# Altium schematic symbol library CAP,Alum,1000uF,25VDC,SMD.Schlib: 1 symbol
Pins are listed as number, name and electrical type; pins without a type are passive.

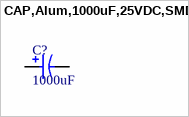
[diagram p0: symbol CAP,Alum,1000uF,25VDC,SMD]

## CAP,Alum,1000uF,25VDC,SMD
designator C?, comment 1000uF
CAP ALUM 1000UF 20% 25V SMD
pins: 1, 2